# Altium schematic symbol library Isolated Gate Driver Bias Supply schematic lib.SchLib: 21 symbols
Pins are listed as number, name and electrical type; pins without a type are passive.

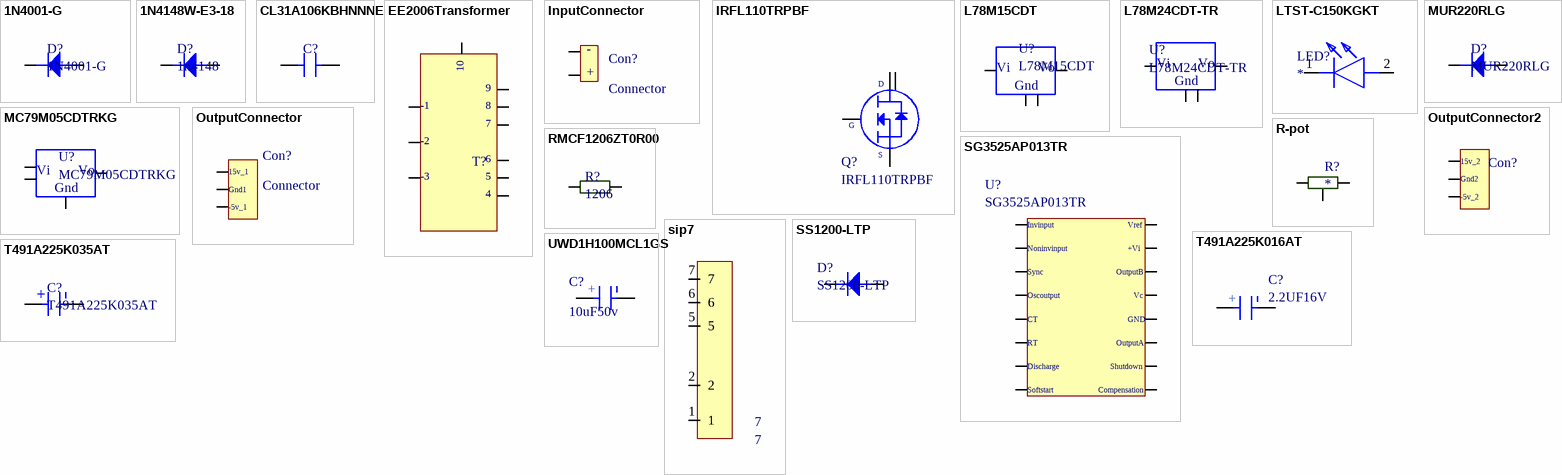
[diagram p0: symbols 1N4001-G to UWD1H100MCL1GS]

## 1N4001-G
designator D?
DIODE GEN PURP 50V 1A DO41; Manufacturer: Comchip; Supplier 1: Digi-Key; Manufacturer Part Number: 1N4001-G; RoHS: Yes; Stock 1: 80000; Pricing 1: 5000 = 0,01691, 10000 = 0,01470, 25000 = 0,01323, 50000 = 0,01176, 125000 = 0,00978 (USD); Mount: Through Hole; Package Quantity: 5000; Packaging: Tape and Reel; Average Rectified Current: 1A; Max Reverse Voltage (DC): 50V; ComponentLink1URL: http://www.comchiptech.com/admin/files/product/1N4001-G%20Thru.%201N4007-G%20RevB.pdf?src-supplier=Digi-Key; ComponentLink1Description: http://www.comchiptech.com/admin/files/product/1N4001-G%20Thru.%201N4007-G%20RevB.pdf?src-supplier=Digi-Key; Supplier Part Number 1: 641-1310-3-ND
footprint DO41 1N4001 MUR220
pins: A, K

## 1N4148W-E3-18
designator D?, comment 1n4148
Diode Small Signal Switching 100V 0.15A 2-Pin SOD-123 T/R; Manufacturer: Vishay; Manufacturer Part Number: 1N4148W-E3-18; Recovery Time: 4ns; Max Power Dissipation: 350mW; Forward Current: 150mA; Max Surge Current: 2A; Forward Voltage: 1.2V; Max Reverse Leakage Current: 5uA; Element Configuration: Single; Max Reverse Voltage (DC): 75V; Peak Reverse Current: 100uA; Supplier 1: Allied Electronics; RoHS: Yes; Stock 1: 6838; Pricing 1: 1 = 0.03900, 25 = 0.03800, 100 = 0.03600, 250 = 0.03400, 500 = 0.03200, 1000 = 0.03100, 2500 = 0.02900 (USD); Mount: Surface Mount; Number of Pins: 2; Weight: 0.000363oz; Contact Plating: Tin; Min Operating Temperature: -55°C; Max Operating Temperature: 150°C; Packaging: Tape and Reel; Package Quantity: 10000; Average Rectified Current: 150mA; Reverse Recovery Time: 4ns; Power Dissipation: 350mW; Max Repetitive Reverse Voltage (Vrrm): 100V; Peak Non-Repetitive Surge Current: 2A; Length: 2.85mm; Height: 1.25mm; Width: 1.7mm; Radiation Hardening: No; Lead Free: Lead Free; ComponentLink1URL: https://datasheet.ciiva.com/29885/1n4148w-29885941.pdf?src-supplier=Avnet; ComponentLink1Description: https://datasheet.ciiva.com/29885/1n4148w-29885941.pdf?src-supplier=Avnet; ComponentLink2URL: https://datasheet.ciiva.com/29593/1n4148w-29593113.pdf?src-supplier=Digi-Key; ComponentLink2Description: https://datasheet.ciiva.com/29593/1n4148w-29593113.pdf?src-supplier=Digi-Key; ComponentLink3URL: https://datasheet.ciiva.com/29593/1n4148w-29593111.pdf?src-supplier=Digi-Key; ComponentLink3Description: https://datasheet.ciiva.com/29593/1n4148w-29593111.pdf?src-supplier=Digi-Key; ComponentLink4URL: https://datasheet.ciiva.com/29593/1n4148w-29593112.pdf?src-supplier=Digi-Key; ComponentLink4Description: https://datasheet.ciiva.com/29593/1n4148w-29593112.pdf?src-supplier=Digi-Key; Supplier Part Number 1: 70061597
footprint SOD123
pins: a, k

## CL31A106KBHNNNE
designator C?  (value not drawn)
Cap Ceramic 10uF 50V X5R 10% SMD 1206 85C T/R; Manufacturer: Samsung; Supplier 1: Digi-Key; Manufacturer Part Number: CL31A106KBHNNNE; RoHS: Yes; Stock 1: 482000; Pricing 1: 2000 = 0,17875, 4000 = 0,16758 (USD); Mount: Surface Mount; Case/Package: 1206; Case Code (Metric): 3216; Case Code (Imperial): 1206; Material: Ceramic; Contact Plating: Tin; Min Operating Temperature: -55°C; Max Operating Temperature: 85°C; Capacitance: 10uF; Tolerance: 10%; Package Quantity: 1; Packaging: Tape and Reel; Voltage Rating: 50V; Dielectric: X5R; Voltage Rating (DC): 50V; Length: 3.2mm; Height: 1.6mm; Width: 0.063inch; Thickness: 0.071inch; Depth: 1.6mm; Radiation Hardening: No; Lead Free: Lead Free; ComponentLink1URL: https://media.digikey.com/pdf/Data%20Sheets/Samsung%20PDFs/CL_Series_MLCC_ds.pdf?src-supplier=Digi-Key; ComponentLink1Description: https://media.digikey.com/pdf/Data%20Sheets/Samsung%20PDFs/CL_Series_MLCC_ds.pdf?src-supplier=Digi-Key; ComponentLink2URL: http://www1.futureelectronics.com/doc/SAMSUNG%20PASSIVE/CL05B104KQ5NNNC.pdf?src-supplier=Future+Electronics; ComponentLink2Description: http://www1.futureelectronics.com/doc/SAMSUNG%20PASSIVE/CL05B104KQ5NNNC.pdf?src-supplier=Future+Electronics; ComponentLink3URL: http://www.rapidonline.com/pdf/71-0881.pdf?src-supplier=Rapid+Electronics; ComponentLink3Description: http://www.rapidonline.com/pdf/71-0881.pdf?src-supplier=Rapid+Electronics; ComponentLink4URL: https://www.verical.com/server-webapp/html/getDatasheet?partID=353196&src-supplier=Verical; ComponentLink4Description: https://www.verical.com/server-webapp/html/getDatasheet?partID=353196&src-supplier=Verical; ComponentLink5URL: https://produktinfo.conrad.com/datenblaetter/450000-474999/452492-da-01-en-VS_KONDENSATOR_1206.pdf?src-supplier=Conrad; ComponentLink5Description: https://produktinfo.conrad.com/datenblaetter/450000-474999/452492-da-01-en-VS_KONDENSATOR_1206.pdf?src-supplier=Conrad; Supplier Part Number 1: 1276-2876-2-ND
footprint Cap1206
pins: 1, 2

## EE2006Transformer
designator T?  (value not drawn)
footprint EE1605
footprint EE2006
pins: 1, 2, 3, 4, 5, 6, 7, 8, 9, 10
text: -1; -2; -3

## InputConnector
designator Con?, comment Connector
footprint Input connector
pins: 1, 2
text: -; +

## IRFL110TRPBF
designator Q?
Trans MOSFET N-CH 100V 1.5A 4-Pin(3+Tab) T/R; Manufacturer: Vishay; Input Capacitance: 180pF; Number of Elements: 1; Max Power Dissipation: 2W; Rds On Max: 540mR; Rise Time: 16ns; Gate to Source Voltage (Vgs): 20V; Fall Time: 9.4ns; Turn-Off Delay Time: 15ns; Turn-On Delay Time: 6.9ns; Element Configuration: Single; Current: 15A; Supplier 1: Digi-Key; Manufacturer Part Number: IRFL110TRPBF; RoHS: Yes; Stock 1: 5000; Pricing 1: 2500 = 0,29779 (USD); Mount: Surface Mount; Case/Package: SOT-223; Number of Pins: 3; Weight: 0.008826oz; Contact Plating: Matte,Tin; Min Operating Temperature: -55°C; Max Operating Temperature: 150°C; Package Quantity: 1; Packaging: Tape and Reel; Drain to Source Voltage (Vdss): 100V; Continuous Drain Current (ID): 1.5A; Drain to Source Breakdown Voltage: 100V; Drain to Source Resistance: 540mR; Power Dissipation: 2W; Number of Channels: 1; Voltage: 100V; On-State Resistance: 540mR; Length: 6.7mm; Height: 1.8mm; Width: 3.7mm; Radiation Hardening: No; REACH SVHC: Unknown; Lead Free: Lead Free; ComponentLink1URL: http://www.vishay.com/docs/91192/sihfl110.pdf?src-supplier=Avnet; ComponentLink1Description: http://www.vishay.com/docs/91192/sihfl110.pdf?src-supplier=Avnet; ComponentLink2URL: http://www.vishay.com/docs/91192/sihfl110.pdf?src-supplier=Future+Electronics; ComponentLink2Description: http://www.vishay.com/docs/91192/sihfl110.pdf?src-supplier=Future+Electronics; ComponentLink3URL: http://www.vishay.com/docs/91192/sihfl110.pdf?src-supplier=Avnet+Europe; ComponentLink3Description: http://www.vishay.com/docs/91192/sihfl110.pdf?src-supplier=Avnet+Europe; ComponentLink4URL: https://www.verical.com/server-webapp/html/getDatasheet?partID=80948&src-supplier=Verical; ComponentLink4Description: https://www.verical.com/server-webapp/html/getDatasheet?partID=80948&src-supplier=Verical; ComponentLink5URL: http://www.vishay.com/docs/91192/sihfl110.pdf?src-supplier=Digi-Key; ComponentLink5Description: http://www.vishay.com/docs/91192/sihfl110.pdf?src-supplier=Digi-Key; ComponentLink6URL: http://uk.rs-online.com/webdocs/126c/0900766b8126cec6.pdf?src-supplier=RSComponents; ComponentLink6Description: http://uk.rs-online.com/webdocs/126c/0900766b8126cec6.pdf?src-supplier=RSComponents; ComponentLink7URL: http://www.jameco.com/Jameco/Products/ProdDS/1562152.pdf?src-supplier=Jameco; ComponentLink7Description: http://www.jameco.com/Jameco/Products/ProdDS/1562152.pdf?src-supplier=Jameco; ComponentLink8URL: http://datasheet.iiic.cc/vishay_[siliconix]/IRFL110TRPBF.pdf?src-supplier=IIIC; ComponentLink8Description: http://datasheet.iiic.cc/vishay_[siliconix]/IRFL110TRPBF.pdf?src-supplier=IIIC; Supplier Part Number 1: IRFL110PBFTR-ND
footprint SOT223 (SOT223, 4-Leads, Body 6.50x7.00mm (avg), Pitch 2.30mm, IPC Medium Density)
pins: 1, 2, 3, 4
text: Text; D; G; S

## L78M15CDT
designator U?
Linear Voltage Regulators 15V 0.5A Positive; Manufacturer: STMicroelectronics; Max Output Current: 500mA; Number of Outputs: 1; Max Input Voltage: 35V; Quiescent Current: 6mA; Output Type: Fixed; Dropout Voltage: 2V; Supplier 1: Avnet; Manufacturer Part Number: L78M15CDT; RoHS: Yes; Mount: Surface Mount; Case/Package: DPAK; Number of Pins: 3; Min Operating Temperature: 0°C; Max Operating Temperature: 150°C; Output Voltage: 15V; Polarity: Positive; Packaging: Rail/Tube; Output Current: 500mA; Min Input Voltage: 35V; Package Quantity: 75; Length: 6.6mm; Height: 2.4mm; Width: 6.2mm; Radiation Hardening: No; ComponentLink1URL: http://docs-usa.electrocomponents.com/techlib:/itc_doclist_US.htm?stockno=1890999&src-supplier=Allied+Electronics; ComponentLink1Description: http://docs-usa.electrocomponents.com/techlib:/itc_doclist_US.htm?stockno=1890999&src-supplier=Allied+Electronics; ComponentLink2URL: http://www.st.com/web/en/resource/technical/document/datasheet/CD00000447.pdf?src-supplier=Avnet+Europe; ComponentLink2Description: http://www.st.com/web/en/resource/technical/document/datasheet/CD00000447.pdf?src-supplier=Avnet+Europe; ComponentLink3URL: http://www.mouser.com/ds/2/389/stmicroelectronics_cd00000447-329548.pdf?src-supplier=Mouser; ComponentLink3Description: http://www.mouser.com/ds/2/389/stmicroelectronics_cd00000447-329548.pdf?src-supplier=Mouser; Supplier Part Number 1: L78M15CDT
footprint sot89
pins: 1, 2, 3, 4
text: Vi; Vo; Gnd

## L78M24CDT-TR
designator U?
IC REG LINEAR 24V 500MA DPAK; Manufacturer: STMicroelectronics; Number of Outputs: 1; Max Input Voltage: 40V; Min Input Voltage: 26V; Dropout Voltage: 2V; Polarity: Positive; Quiescent Current: 6mA; Power Supply Rejection Ratio (PSRR): 50dB; Output Type: Fixed; Supplier 1: Arrow; Manufacturer Part Number: L78M24CDT-TR; RoHS: Yes; Stock 1: 1; Pricing 1: 1 = 0,49540 (USD); Mount: Surface Mount; Case/Package: TO-252; Number of Pins: 3; Weight: 0.063493oz; Min Operating Temperature: 0°C; Max Operating Temperature: 150°C; Packaging: Tape and Reel; Output Voltage: 24V; Output Current: 500mA; Max Output Current: 500mA; Package Quantity: 1; Number of Regulators: 1; Nominal Output Voltage: 24V; Radiation Hardening: No; REACH SVHC: No SVHC; Lead Free: Lead Free; ComponentLink1URL: http://www.st.com/content/ccc/resource/technical/document/datasheet/d7/5f/dc/5c/d5/b6/48/7c/CD00000447.pdf/files/CD00000447.pdf/jcr:content/translations/en.CD00000447.pdf?src-supplier=Digi-Key; ComponentLink1Description: http://www.st.com/content/ccc/resource/technical/document/datasheet/d7/5f/dc/5c/d5/b6/48/7c/CD00000447.pdf/files/CD00000447.pdf/jcr:content/translations/en.CD00000447.pdf?src-supplier=Digi-Key; ComponentLink2URL: http://www.st.com/web/en/resource/technical/document/datasheet/CD00000447.pdf?src-supplier=Avnet; ComponentLink2Description: http://www.st.com/web/en/resource/technical/document/datasheet/CD00000447.pdf?src-supplier=Avnet; ComponentLink3URL: http://www.st.com/web/en/resource/technical/document/datasheet/CD00000447.pdf?src-supplier=Avnet+Europe; ComponentLink3Description: http://www.st.com/web/en/resource/technical/document/datasheet/CD00000447.pdf?src-supplier=Avnet+Europe; ComponentLink4URL: http://datasheet.iiic.cc/stmicroelectronics/L78M24CDT-TR.pdf?src-supplier=IIIC; ComponentLink4Description: http://datasheet.iiic.cc/stmicroelectronics/L78M24CDT-TR.pdf?src-supplier=IIIC; Supplier Part Number 1: L78M24CDT-TR
footprint TO-252
pins: 1, 2, 3, 4
text: Vi; Vo; Gnd

## LTST-C150KGKT
designator LED?
LED; Manufacturer_Name: Lite-On; Manufacturer_Part_Number: LTST-C150KGKT; Datasheet Link: http://optoelectronics.liteon.com/upload/download/ds22-2000-072/ltst-c150kgkt.pdf; Height: 1.2mm; Mouser Part Number: 859-LTST-C150KGKT; Mouser Price/Stock: https://www.mouser.com/Search/Refine.aspx?Keyword=859-LTST-C150KGKT; RS Part Number: 6920871; RS Price/Stock: https://uk.rs-online.com/web/p/products/6920871
footprint L-1206
pins: 1 K, 2 A

## MC79M05CDTRKG
designator U?
ON SEMICONDUCTOR - MC79M05CDTRKG - NEGATIVE VOLTAGE REGULATOR, -5V, DPAK-3; Max Input Voltage: -35V; Min Input Voltage: -7V; Max Output Current: 500mA; Number of Outputs: 1; Dropout Voltage: 1.1V; Accuracy: 4%; Max Output Voltage: -5.2V; Power Supply Rejection Ratio (PSRR): 66dB; Output Type: Fixed; Supplier 1: Digi-Key; Manufacturer: ON Semiconductor; Manufacturer Part Number: MC79M05CDTRKG; RoHS: Yes; Stock 1: 5000; Pricing 1: 2500 = 0,18538, 5000 = 0,17342, 12500 = 0,16146, 25000 = 0,15309, 62500 = 0,14950 (USD); Mount: Surface Mount; Case/Package: DPAK; Number of Pins: 3; Contact Plating: Matte,Tin; Min Operating Temperature: 0°C; Max Operating Temperature: 125°C; Packaging: Tape and Reel; Output Voltage: -5V; Output Current: 500mA; Nominal Output Voltage: -5V; Package Quantity: 1; Number of Regulators: 1; Polarity: Negative; Min Output Voltage: -5V; Output Voltage Accuracy: 4%; Length: 6.73mm; Height: 2.38mm; Width: 6.22mm; Radiation Hardening: No; REACH SVHC: No SVHC; Lead Free: Lead Free; Halogen Free: Halogen Free; ComponentLink1URL: http://www.farnell.com/datasheets/2236912.pdf?src-supplier=Newark; ComponentLink1Description: http://www.farnell.com/datasheets/2236912.pdf?src-supplier=Newark; ComponentLink2URL: http://www.onsemi.com/pub/Collateral/MC79M00-D.PDF?src-supplier=Digi-Key; ComponentLink2Description: http://www.onsemi.com/pub/Collateral/MC79M00-D.PDF?src-supplier=Digi-Key; ComponentLink3URL: http://www.farnell.com/datasheets/1747960.pdf?src-supplier=Element14; ComponentLink3Description: http://www.farnell.com/datasheets/1747960.pdf?src-supplier=Element14; ComponentLink4URL: http://www.onsemi.com/pub/Collateral/MC79M00-D.PDF?src-supplier=Avnet+Europe; ComponentLink4Description: http://www.onsemi.com/pub/Collateral/MC79M00-D.PDF?src-supplier=Avnet+Europe; Supplier Part Number 1: MC79M05CDTRKGOSTR-ND
footprint sot89
pins: 1, 2, 2, 3
text: Vi; Vo; Gnd

## MUR220RLG
designator D?
DIODE GEN PURP 200V 2A AXIAL; Manufacturer: ON Semiconductor; Peak Reverse Current: 2uA; Max Surge Current: 35A; Recovery Time: 35ns; Forward Voltage: 950mV; Element Configuration: Single; Polarity: Standard; Supplier 1: Digi-Key; Manufacturer Part Number: MUR220RLG; RoHS: Yes; Stock 1: 4950; Pricing 1: 1 = 0,37000, 10 = 0,30200, 100 = 0,20590, 500 = 0,15446, 1000 = 0,11584 (USD); Case/Package: Axial; Number of Pins: 2; Contact Plating: Matte,Tin; Min Operating Temperature: -65°C; Max Operating Temperature: 175°C; Package Quantity: 5000; Packaging: Tape and Reel; Average Rectified Current: 2A; Reverse Recovery Time: 35ns; Max Repetitive Reverse Voltage (Vrrm): 200V; Peak Non-Repetitive Surge Current: 35A; Forward Current: 2A; Max Forward Surge Current (Ifsm): 35A; Voltage Rating (DC): 200V; Current Rating: 2A; Output Current: 2A; Max Reverse Voltage (DC): 200V; Reverse Voltage: 200V; Radiation Hardening: No; REACH SVHC: No SVHC; Lead Free: Lead Free; Halogen Free: Halogen Free; ComponentLink1URL: http://www.onsemi.com/pub/Collateral/MUR220-D.PDF?src-supplier=Avnet; ComponentLink1Description: http://www.onsemi.com/pub/Collateral/MUR220-D.PDF?src-supplier=Avnet; ComponentLink2URL: http://www.onsemi.com/pub/Collateral/MUR220-D.PDF?src-supplier=Digi-Key; ComponentLink2Description: http://www.onsemi.com/pub/Collateral/MUR220-D.PDF?src-supplier=Digi-Key; ComponentLink3URL: http://www.onsemi.com/pub/Collateral/MUR220-D.PDF?src-supplier=Avnet+Europe; ComponentLink3Description: http://www.onsemi.com/pub/Collateral/MUR220-D.PDF?src-supplier=Avnet+Europe; Supplier Part Number 1: MUR220RLGOSCT-ND
footprint DO41 1N4001 MUR220
pins: A, K

## OutputConnector
designator Con?, comment Connector
footprint Output Connector
footprint Output Connector
pins: 1, 2, 3
text: 15v_1; Gnd1; -5v_1

## OutputConnector2
designator Con?  (value not drawn)
footprint Output Connector
pins: 1, 2, 3
text: 15v_2; Gnd2; -5v_2

## R-pot
designator R?
Res1206
footprint pot
pins: 1, 2, 3

## RMCF1206ZT0R00
designator R?, comment 1206
RES 0 OHM JUMPER 1/4W 1206; Manufacturer: Stackpole Electronics; Manufacturer Part Number: RMCF1206ZT0R00; Resistance: 0mR; Power Rating: 250mW; Current Rating: 2A; Working Voltage: 200V; Supplier 1: Digi-Key; RoHS: Yes; Stock 1: 1700000; Pricing 1: 5000 = 0,00355, 10000 = 0,00309, 25000 = 0,00271, 50000 = 0,00249, 125000 = 0,00244 (USD); Mount: Surface Mount; Case/Package: 1206; Case Code (Metric): 3216; Case Code (Imperial): 1206; Contact Plating: Matte,Tin; Min Operating Temperature: -55°C; Max Operating Temperature: 155°C; Packaging: Tape and Reel; Composition: Thick Film; Number of Terminations: 2; Military Standard: Not; Max Power Dissipation: 250mW; Features: Automotive AEC-Q200; Length: 0.126inch; Height: 0.028inch; Width: 0.063inch; Depth: 1.6mm; Radiation Hardening: No; Lead Free: Lead Free; Supplier Part Number 1: RMCF1206ZT0R00TR-ND
footprint RES1206 (Chip Resistor, 2-Leads, Body 3,15x1,58mm, IPC Medium Density)
pins: 1, 2

## SG3525AP013TR
designator U?
IC REG CTRLR BCK/PSH-PULL 16SOIC; Manufacturer: STMicroelectronics; Max Supply Voltage: 35V; Output Current: 400A; Rise Time: 100ns; Number of Outputs: 2; Switching Frequency: 400kHz; Output Voltage: 5.2V; Max Frequency: 500kHz; Duty Cycle: 49%; Fall Time: 50ns; Operating Supply Current: 14mA; Max Supply Current: 20mA; Supplier 1: Digi-Key; RoHS: Yes; Stock 1: 5712; Pricing 1: 1 = 1,58000, 10 = 1,41600, 100 = 1,10400, 500 = 0,91196, 1000 = 0,71997 (USD); Mount: Surface Mount; Number of Pins: 16; Weight: 0.007079oz; Min Operating Temperature: 0°C; Max Operating Temperature: 70°C; Packaging: Tape and Reel; Package Quantity: 1; Max Duty Cycle: 49%; Radiation Hardening: No; Lead Free: Lead Free; ComponentLink1URL: http://www.st.com/content/ccc/resource/technical/document/datasheet/c0/12/98/4a/3b/1a/4b/8b/CD00000958.pdf/files/CD00000958.pdf/jcr:content/translations/en.CD00000958.pdf?src-supplier=Digi-Key; ComponentLink1Description: http://www.st.com/content/ccc/resource/technical/document/datasheet/c0/12/98/4a/3b/1a/4b/8b/CD00000958.pdf/files/CD00000958.pdf/jcr:content/translations/en.CD00000958.pdf?src-supplier=Digi-Key; ComponentLink2URL: https://www.verical.com/server-webapp/html/getDatasheet?partID=376579&src-supplier=Verical; ComponentLink2Description: https://www.verical.com/server-webapp/html/getDatasheet?partID=376579&src-supplier=Verical; ComponentLink3URL: http://www.produktinfo.conrad.com/datenblaetter/1100000-1199999/001185611-da-01-en-IC_REG_CTRLR_P_SG3525AP013TR_SOIC_16_STM.pdf?src-supplier=Conrad; ComponentLink3Description: http://www.produktinfo.conrad.com/datenblaetter/1100000-1199999/001185611-da-01-en-IC_REG_CTRLR_P_SG3525AP013TR_SOIC_16_STM.pdf?src-supplier=Conrad; Case/Package: SOIC; Supplier Part Number 1: 497-6479-1-ND; Manufacturer Part Number: SG3525AP013TR
footprint SOIC16N
pins: 1, 2, 3, 4, 5, 6, 7, 8, 9, 10, 11, 12, 13, 14, 15, 16
text: Invinput; Vref; Noninvinput; +Vi; Sync; OutputB; Oscoutput; Vc; CT; GND; RT; OutputA; Discharge; Shutdown; Softstart; Compensation

## sip7
designator 7, comment 7
footprint SIP7
pins: 1, 2, 5, 6, 7

## SS1200-LTP
designator D?
DIODE SCHOTTKY 200V 1A DO214AC; Manufacturer: MCC; Max Surge Current: 30A; Forward Voltage: 920mV; Peak Reverse Current: 1mA; Element Configuration: Single; Supplier 1: Digi-Key; Manufacturer Part Number: SS1200-LTP; RoHS: Yes; Stock 1: 10000; Pricing 1: 5000 = 0,09300, 10000 = 0,08700, 25000 = 0,08400 (USD); Mount: Surface Mount; Min Operating Temperature: -55°C; Max Operating Temperature: 150°C; Packaging: Tape and Reel; Package Quantity: 1; Max Reverse Leakage Current: 1mA; Max Repetitive Reverse Voltage (Vrrm): 200V; Forward Current: 1A; Max Forward Surge Current (Ifsm): 30A; Average Rectified Current: 1A; Max Reverse Voltage (DC): 200V; Lead Free: Lead Free; ComponentLink1URL: https://datasheet.ciiva.com/913/ss1150-l-ss1200-ldo-214ac-913194.pdf?src-supplier=Digi-Key; ComponentLink1Description: https://datasheet.ciiva.com/913/ss1150-l-ss1200-ldo-214ac-913194.pdf?src-supplier=Digi-Key; ComponentLink2URL: https://datasheet.ciiva.com/15404/ss1150-l-ss1200-ldo-214ac-272760-15404740.pdf?src-supplier=Mouser; ComponentLink2Description: https://datasheet.ciiva.com/15404/ss1150-l-ss1200-ldo-214ac-272760-15404740.pdf?src-supplier=Mouser; ComponentLink3URL: https://datasheet.ciiva.com/913/ss1150-l-ss1200-ldo-214ac-913195.pdf?src-supplier=Digi-Key; ComponentLink3Description: https://datasheet.ciiva.com/913/ss1150-l-ss1200-ldo-214ac-913195.pdf?src-supplier=Digi-Key; ComponentLink4URL: https://datasheet.ciiva.com/913/ss1150-l-ss1200-ldo-214ac-913196.pdf?src-supplier=Digi-Key; ComponentLink4Description: https://datasheet.ciiva.com/913/ss1150-l-ss1200-ldo-214ac-913196.pdf?src-supplier=Digi-Key; ComponentLink5URL: https://datasheet.ciiva.com/17447/ss1150-l-ss1200-ldo-214ac-17447695.pdf?src-supplier=Future+Electronics; ComponentLink5Description: https://datasheet.ciiva.com/17447/ss1150-l-ss1200-ldo-214ac-17447695.pdf?src-supplier=Future+Electronics; Supplier Part Number 1: SS1200-LTPMSTR-ND
footprint DO-214AC
pins: a, k

## T491A225K016AT
designator C?, comment 2.2UF16V
CAP TANT 2.2UF 10% 16V 1206; Manufacturer: KEMET; Manufacturer Part Number: T491A225K016AT; Dielectric Material: Tantalum; ESR (Equivalent Series Resistance): 6R; Leakage Current: 500nA; Polarity: Polar; Dissipation Factor: 6%; Life (Hours): 2000Hour; Supplier 1: Digi-Key; RoHS: Yes; Stock 1: 84000; Pricing 1: 2000 = 0,09450, 4000 = 0,08925, 10000 = 0,08400, 14000 = 0,08138, 50000 = 0,07350, 100000 = 0,07140 (USD); Mount: PCB,Surface Mount; Case/Package: 1206; Number of Pins: 2; Case Code (Metric): 3216; Case Code (Imperial): 1206; Min Operating Temperature: -55°C; Max Operating Temperature: 125°C; Capacitance: 2.2uF; Tolerance: 10%; Voltage Rating: 16V; Packaging: Tape and Reel; Package Quantity: 1; Voltage Rating (DC): 16V; Termination: SMD/SMT; Voltage: 16V; Features: General Purpose; Length: 3.2mm; Height: 1.6mm; Width: 1.6mm; Height - Seated (Max): 0.071inch; Depth: 1.6mm; Radiation Hardening: No; REACH SVHC: No SVHC; Lead Free: Lead Free; ComponentLink1URL: http://www.farnell.com/datasheets/1854511.pdf?src-supplier=Element14; ComponentLink1Description: http://www.farnell.com/datasheets/1854511.pdf?src-supplier=Element14; ComponentLink2URL: http://www.jameco.com/Jameco/Products/ProdDS/1573329.pdf?src-supplier=Jameco; ComponentLink2Description: http://www.jameco.com/Jameco/Products/ProdDS/1573329.pdf?src-supplier=Jameco; ComponentLink3URL: https://api.kemet.com/component-edge/download/datasheet/T491A225K016AT.pdf?src-supplier=Digi-Key; ComponentLink3Description: https://api.kemet.com/component-edge/download/datasheet/T491A225K016AT.pdf?src-supplier=Digi-Key; ComponentLink4URL: http://www.farnell.com/datasheets/1854511.pdf?src-supplier=Farnell; ComponentLink4Description: http://www.farnell.com/datasheets/1854511.pdf?src-supplier=Farnell; ComponentLink5URL: http://uk.rs-online.com/webdocs/1515/0900766b81515567.pdf?src-supplier=RSComponents; ComponentLink5Description: http://uk.rs-online.com/webdocs/1515/0900766b81515567.pdf?src-supplier=RSComponents; ComponentLink6URL: https://www.verical.com/server-webapp/html/getDatasheet?partID=120946&src-supplier=Verical; ComponentLink6Description: https://www.verical.com/server-webapp/html/getDatasheet?partID=120946&src-supplier=Verical; ComponentLink7URL: https://search.kemet.com/component-edge/download/datasheet/T491A225K016AT.pdf?src-supplier=Digi-Key; ComponentLink7Description: https://search.kemet.com/component-edge/download/datasheet/T491A225K016AT.pdf?src-supplier=Digi-Key; ComponentLink8URL: http://www.farnell.com/datasheets/1446014.pdf?src-supplier=Element14; ComponentLink8Description: http://www.farnell.com/datasheets/1446014.pdf?src-supplier=Element14; ComponentLink9URL: http://www.mouser.com/ds/2/212/KEM_T2005_T491-1093550.pdf?src-supplier=Mouser; ComponentLink9Description: http://www.mouser.com/ds/2/212/KEM_T2005_T491-1093550.pdf?src-supplier=Mouser; Supplier Part Number 1: 399-3691-2-ND
footprint Tantal1206
pins: 1, 2
text: +

## T491A225K035AT
designator C?
CAP TANT 2.2UF 35V 10% 1206; Manufacturer: KEMET; ESR (Equivalent Series Resistance): 4.5R; Polarity: Polar; Life (Hours): 2000Hour; Dissipation Factor: 6%; Supplier 1: Digi-Key; Manufacturer Part Number: T491A225K035AT; RoHS: Yes; Stock 1: 1476; Pricing 1: 1 = 0,62000, 10 = 0,44100, 100 = 0,29030, 500 = 0,21506, 1000 = 0,18280 (USD); Mount: Surface Mount; Case/Package: Molded; Case Code (Metric): 3216; Case Code (Imperial): 1206; Min Operating Temperature: -55°C; Max Operating Temperature: 125°C; Capacitance: 2.2uF; Tolerance: 10%; Package Quantity: 2000; Packaging: Tape and Reel; Voltage Rating: 35V; Voltage Rating (DC): 35V; Features: General Purpose; Length: 3.2mm; Height: 1.6mm; Width: 0.063inch; Height - Seated (Max): 0.071inch; Depth: 1.6mm; Radiation Hardening: No; REACH SVHC: No SVHC; Lead Free: Lead Free; ComponentLink1URL: http://www.kemet.com/Lists/ProductCatalog/Attachments/254/KEM_T2005_T491.pdf?src-supplier=Digi-Key; ComponentLink1Description: http://www.kemet.com/Lists/ProductCatalog/Attachments/254/KEM_T2005_T491.pdf?src-supplier=Digi-Key; Supplier Part Number 1: 399-10447-6-ND
footprint Tantal1206
pins: 1, 2
text: +

## UWD1H100MCL1GS
designator C?, comment 10uF50v
Aluminum Electrolytic Capacitors - SMD 50volts 10uF 6.3x5.8; Manufacturer: Nichicon; Manufacturer Part Number: UWD1H100MCL1GS; Material: Aluminium; Voltage Rating: 50V; Tolerance: 20%; Ripple Current: 165mA; Impedance: 880mR; Leakage Current: 3uA; Life (Hours): 2000Hour; Dissipation Factor: 0.12%; Supplier 1: Digi-Key; RoHS: Yes; Stock 1: 8000; Pricing 1: 1000 = 0.23520, 2000 = 0.22050, 5000 = 0.20580, 10000 = 0.19845, 25000 = 0.19110, 50000 = 0.19040 (USD); Mount: Surface Mount; Case/Package: SMD/SMT; Min Operating Temperature: -55°C; Max Operating Temperature: 105°C; Package Quantity: 1; Capacitance: 10uF; Packaging: Tape and Reel; Voltage Rating (DC): 50V; Termination: SMD/SMT; Voltage: 50V; Features: General Purpose; Diameter: 6.3mm; Length: 5.8mm; Height: 5.8mm; Height - Seated (Max): 0.24inch; Lead Pitch: 2.2mm; Radiation Hardening: No; Lead Free: Lead Free; ComponentLink1URL: https://datasheet.ciiva.com/11783/0900766b8080ae55-11783196.pdf?src-supplier=RSComponents; ComponentLink1Description: https://datasheet.ciiva.com/11783/0900766b8080ae55-11783196.pdf?src-supplier=RSComponents; ComponentLink2URL: https://datasheet.ciiva.com/17526/e-wd-17526757.pdf?src-supplier=Avnet+Europe; ComponentLink2Description: https://datasheet.ciiva.com/17526/e-wd-17526757.pdf?src-supplier=Avnet+Europe; ComponentLink3URL: https://datasheet.ciiva.com/5362/e-wd-5362054.pdf?src-supplier=Mouser; ComponentLink3Description: https://datasheet.ciiva.com/5362/e-wd-5362054.pdf?src-supplier=Mouser; ComponentLink4URL: https://datasheet.ciiva.com/11686/e-wd-11686678.pdf?src-supplier=Avnet; ComponentLink4Description: https://datasheet.ciiva.com/11686/e-wd-11686678.pdf?src-supplier=Avnet; ComponentLink5URL: https://datasheet.ciiva.com/6310/e-wd-6310126.pdf?src-supplier=Digi-Key; ComponentLink5Description: https://datasheet.ciiva.com/6310/e-wd-6310126.pdf?src-supplier=Digi-Key; ComponentLink6URL: https://datasheet.ciiva.com/6310/e-wd-6310127.pdf?src-supplier=Digi-Key; ComponentLink6Description: https://datasheet.ciiva.com/6310/e-wd-6310127.pdf?src-supplier=Digi-Key; Supplier Part Number 1: 493-6294-2-ND
footprint 4x5.3 cap
pins: 1, 2
text: +